# EAGLE library part MAX30100 (library ICs)
Pulse Oximeter and Heart-Rate Sensor IC for Wearable Health
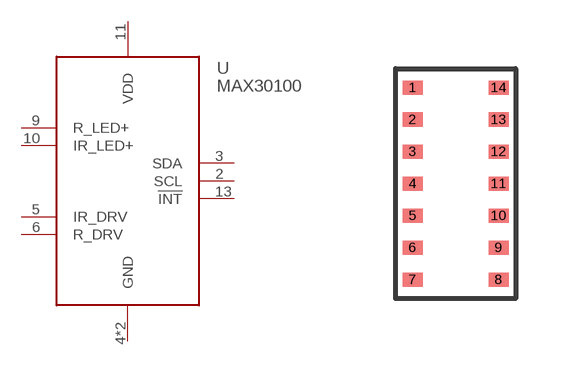
[diagram p287: symbol with the pads of OESIP14; footprint OESIP14]

Designator prefix U

## MAX30100 (HEIGHT: 1.3; MOUSER: 700-MAX30100EFD+T; PRICE_PER: 5.26; VALUE: MAX30100)  [OESIP14]
2  SCL
3  SDA
4  GND
5  IR_DRV
6  R_DRV
9  R_LED+
10  IR_LED+
11  VDD
12  GND
13  !INT

## Footprint OESIP14 (pad centres in mm)
smd 0.5 x 0.35: 1 -1.075,2.4; 2 -1.075,1.6; 3 -1.075,0.8; 4 -1.075,0; 5 -1.075,-0.8; 6 -1.075,-1.6; 7 -1.075,-2.4; 8 1.075,-2.4; 9 1.075,-1.6; 10 1.075,-0.8; 11 1.075,0; 12 1.075,0.8; 13 1.075,1.6; 14 1.075,2.4